# Altium schematic symbol library sch_Diode.SchLib: 38 symbols
Pins are listed as number, name and electrical type; pins without a type are passive.

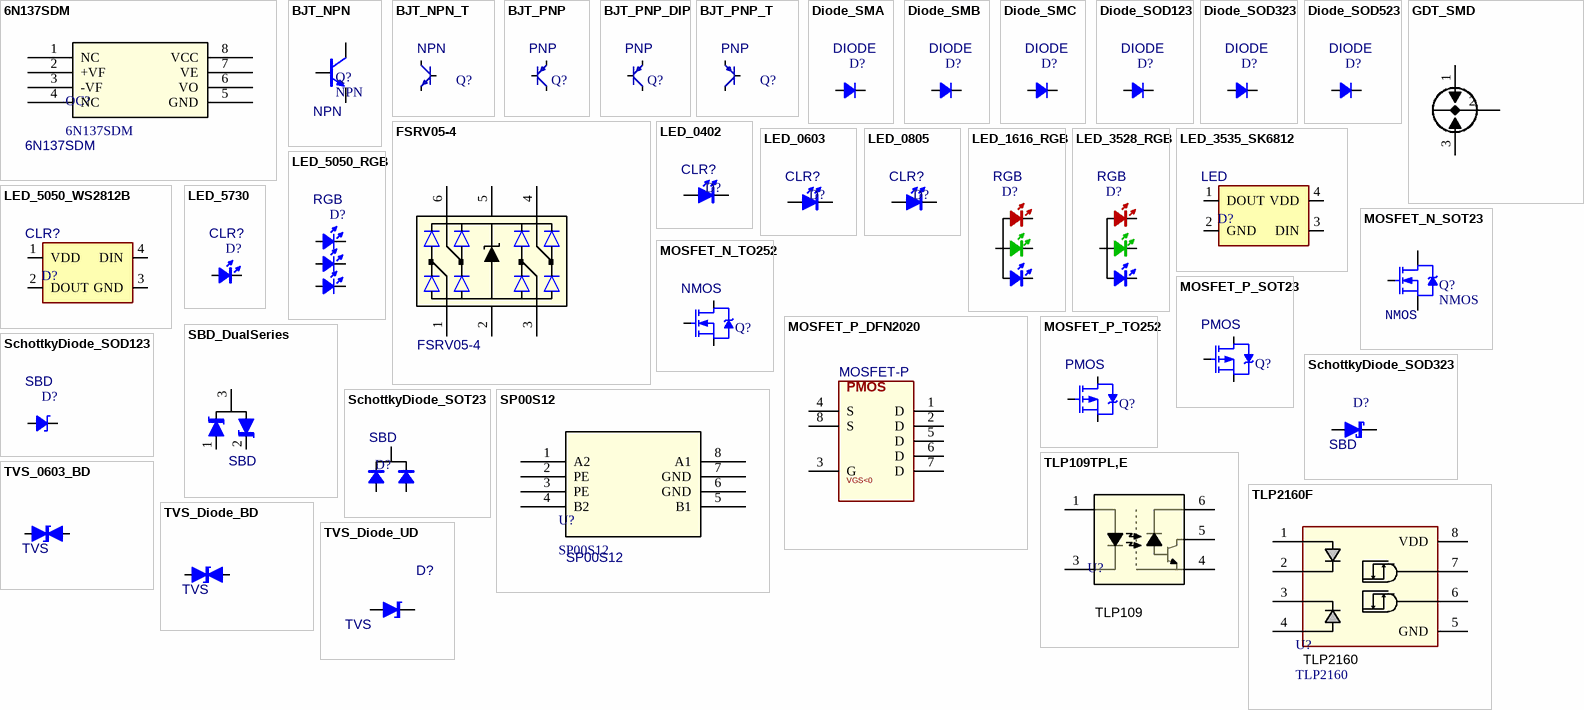
[diagram p0: symbols 6N137SDM to TVS_Diode_UD]

## 6N137SDM
designator OC?
Logic OC; Mfr_Name: onsemi; Package: SOP-8-2.54mm; PartNumber: 6N137SDM
footprint SOP_P2.54mm_8
pins: 1 NC, 2 +VF (power), 3 -VF (power), 4 NC, 5 GND (power), 6 VO (power), 7 VE (power), 8 VCC (power)

## BJT_NPN
designator Q?, comment NPN
Transistor; Mfr_Name: Mfr?; Package: SOT23-3; PartNumber: NPN
footprint SOT23-3
footprint SOT89-3
pins: 1 B, 2 E, 3 C

## BJT_NPN_T
designator Q?, comment NPN
Transistor; Mfr_Name: Mfr?; Package: SOT32-3; PartNumber: NPN
footprint SOT23-3
pins: 1 B, 2 E, 3 C

## BJT_PNP
designator Q?, comment PNP
Transistor; Mfr_Name: Mfr?; Package: SOT23-3; PartNumber: PNP
footprint SOT23-3
pins: 1 B, 2 E, 3 C

## BJT_PNP_DIP
designator Q?, comment PNP
Transistor; Mfr_Name: Mfr?; Package: DIP3; PartNumber: PNP
footprint TO-92_HDR
pins: 1 E, 2 B, 3 C

## BJT_PNP_T
designator Q?, comment PNP
Transistor; Mfr_Name: Mfr?; Package: SOT23-3; PartNumber: PNP
footprint SOT23-3
pins: 1 B, 2 E, 3 C

## Diode_SMA
designator D?, comment DIODE
Mfr_Name: Mfr?; Package: SMA; PartNumber: DIODE
footprint DO-214AC (SMA)
pins: 1 A, 2 K

## Diode_SMB
designator D?, comment DIODE
Mfr_Name: Mfr?; Package: SMB; PartNumber: DIODE
footprint DO-214AA (SMB)
pins: 1 A, 2 K

## Diode_SMC
designator D?, comment DIODE
Mfr_Name: Mfr?; Package: SMC; PartNumber: DIODE
footprint DO-214AB (SMC)
pins: 1 A, 2 K

## Diode_SOD123
designator D?, comment DIODE
Mfr_Name: Mfr?; Package: SOD123; PartNumber: DIODE
footprint SOD-123
pins: 1 A, 2 K

## Diode_SOD323
designator D?, comment DIODE
Mfr_Name: Mfr?; Package: SOD323; PartNumber: DIODE
footprint SOD-323
pins: 1 A, 2 K

## Diode_SOD523
designator D?, comment DIODE
Mfr_Name: Mfr?; Package: SOD523; PartNumber: DIODE
footprint SOD-523
pins: 1 A, 2 K

## FSRV05-4
designator U?
静电和浪涌保护; Mfr_Name: FUXINSEMI; Package: SOT-23-6; PartNumber: FSRV05-4
footprint SOT23-6
pins: 1, 2, 3, 4, 5, 6

## GDT_SMD
designator GDT?, comment GDT
Gas discharge tube; Mfr_Name: Mfr?; Package: PkgRef; PartNumber: GDT
footprint DIO-DT-SMD-L7.2-W5.0
pins: 1, 2, 3

## LED_0402
designator D?, comment CLR?
LED; Mfr_Name: Mfr?; Package: 0402; PartNumber: CLR?
footprint LED_0402_YELLOW
footprint LED_0402_RED
footprint LED_0402_ORANGE
footprint LED_0402_GREEN
footprint LED_0402_BLUE
pins: 1, 2

## LED_0603
designator D?, comment CLR?
LED; Mfr_Name: Mfr?; Package: 0603; PartNumber: CLR?
footprint LED_0603_YELLOW
footprint LED_0603_BLUE
footprint LED_0603_RED
footprint LED_0603_ORANGE
footprint LED_0603_GREEN
pins: 1, 2

## LED_0805
designator D?, comment CLR?
LED; Mfr_Name: Mfr?; Package: 0805; PartNumber: CLR?
footprint LED_0805_YELLOW
footprint LED_0805_RED
footprint LED_0805_ORANGE
footprint LED_0805_GREEN
footprint LED_0805_BLUE
pins: 1, 2

## LED_1616_RGB
designator D?, comment RGB
LED; Mfr_Name: Mfr?; Package: 1616; PartNumber: RGB
footprint LED_1616_RGB
pins: 1 R, 2 G, 3 B, 4 A

## LED_3528_RGB
designator D?, comment RGB
LED; Mfr_Name: Mfr?; Package: 3528; PartNumber: RGB
footprint LED_3528_RGB
pins: 1 R, 2 G, 3 B, 4 A

## LED_3535_SK6812
designator D?, comment LED
One Wire LED; Mfr_Name: Mfr?; Package: 3535; PartNumber: LED
footprint LED_3535_4P
pins: 1 DOUT, 2 GND, 3 DIN, 4 VDD

## LED_5050_RGB
designator D?, comment RGB
LED; Mfr_Name: Mfr?; Package: 5050; PartNumber: RGB
footprint LED_5050_6P
pins: 1 K, 2 K, 3 K, 4 A, 5 A, 6 A

## LED_5050_WS2812B
designator D?, comment CLR?
One Wire LED; Mfr_Name: Mfr?; Package: 5050; PartNumber: CLR?
footprint LED_5050_WS2812B
pins: 1 VDD, 2 DOUT, 3 GND, 4 DIN

## LED_5730
designator D?, comment CLR?
LED; Mfr_Name: Mfr?; Package: 5730; PartNumber: CLR?
footprint LED_5730_WHITE
pins: 1 A, 2 K

## MOSFET_N_SOT23
designator Q?, comment NMOS
MOSFET; Mfr_Name: Mfr?; Package: SOT23-3; PartNumber: NMOS
footprint SOT23-3
pins: 1 G, 2 S, 3 D

## MOSFET_N_TO252
designator Q?, comment NMOS
MOSFET; Mfr_Name: Mfr?; Package: TO252; PartNumber: NMOS
footprint TO-252AA
pins: 1 G, 3 S, 4 D

## MOSFET_P_DFN2020
designator Q?, comment MOSFET-P
MOSFET; MFR: *; Package: UDFN2020-6; PartNumber: MOSFET-P
footprint U-DFN2020-6(TYPE-F)
pins: 1 D, 2 D, 3 G, 4 S, 5 D, 6 D, 7 D, 8 S
text: PMOS; VGS<0

## MOSFET_P_SOT23
designator Q?, comment PMOS
MOSFET; Mfr_Name: Mfr?; Package: SOT23; PartNumber: PMOS
footprint SOT23-3
pins: 1 G, 2 S, 3 D

## MOSFET_P_TO252
designator Q?, comment PMOS
MOSFET; Mfr_Name: Mfr?; Package: TO252; PartNumber: PMOS
footprint TO-252AA
pins: 1 G, 3 S, 4 D

## SBD_DualSeries
designator D?, comment SBD
SBD_DualSeries; Mfr_Name: Mfr?; Package: Pkg?; PartNumber: SBD
footprint SOT23-3
pins: 1 A, 2 K, 3 K

## SchottkyDiode_SOD123
designator D?, comment SBD
Schottky Diode; Mfr_Name: Mfr?; Package: SOD123; PartNumber: SBD
footprint SOD-123
pins: 1 A, 2 K

## SchottkyDiode_SOD323
designator D?, comment SBD
Schottky Diode; Mfr_Name: Mfr?; Package: SOD323; PartNumber: SBD
footprint SOD-323
pins: 1 A, 2 K

## SchottkyDiode_SOT23
designator D?, comment SBD
Schottky Diode; Mfr_Name: Mfr?; Package: SOT23-3; PartNumber: SBD
footprint SOT23-3
pins: 1 A, 2 A, 3 K

## SP00S12
designator U?
Surge Protection for RS485; Mfr_Name: TLPTEC; Package: DIP-8; PartNumber: SP00S12
footprint DIP_2.54_8_SP00S12
pins: 1 A2, 2 PE, 3 PE, 4 B2, 5 B1, 6 GND, 7 GND, 8 A1

## TLP109TPL,E
designator U?, comment TLP109
Logic OC; Mfr_Name: Toshiba Electronic Devices & Storage Corp.; Package: SO-5-4.6mm; PartNumber: TLP109
footprint SO-5-4.6mm
pins: 1, 3, 4, 5, 6

## TLP2160F
designator U?, comment TLP2160
Logic OC; Mfr_Name: Toshiba Electronic Devices & Storage Corp.; Package: SOP-8; PartNumber: TLP2160
footprint SOP_E150_8_OC
pins: 1, 2, 3, 4, 5 GND, 6, 7, 8 VDD

## TVS_0603_BD
designator D?, comment TVS
TVS Diode Bidirectional; Mfr_Name: Mfr?; Package: 0603; PartNumber: TVS
footprint TVS_0603
pins: 1 A, 2 K

## TVS_Diode_BD
designator D?, comment TVS
TVS Diode Bidirectional; Mfr_Name: Mfr?; Package: PkgRef; PartNumber: TVS
footprint DO-214AA (SMB)
pins: 1 A, 2 K

## TVS_Diode_UD
designator D?, comment TVS
TVS Diode Uni-directional; Mfr_Name: Mfr?; Package: PkgRef; PartNumber: TVS
footprint DO-214AA (SMB)
pins: 1 A, 2 K